# Altium footprint library Relay Mod.PcbLib: 1 footprints
Each footprint in its own frame and in the unit in brackets; x right, y up, seen from the top. Pads: shape width x height; smd on the part's side, far side on the other; paste and mask are expansions set on the pad; w line width, h text height; cw(c..) or ccw(c..) is an arc to the next point about the centre after c.
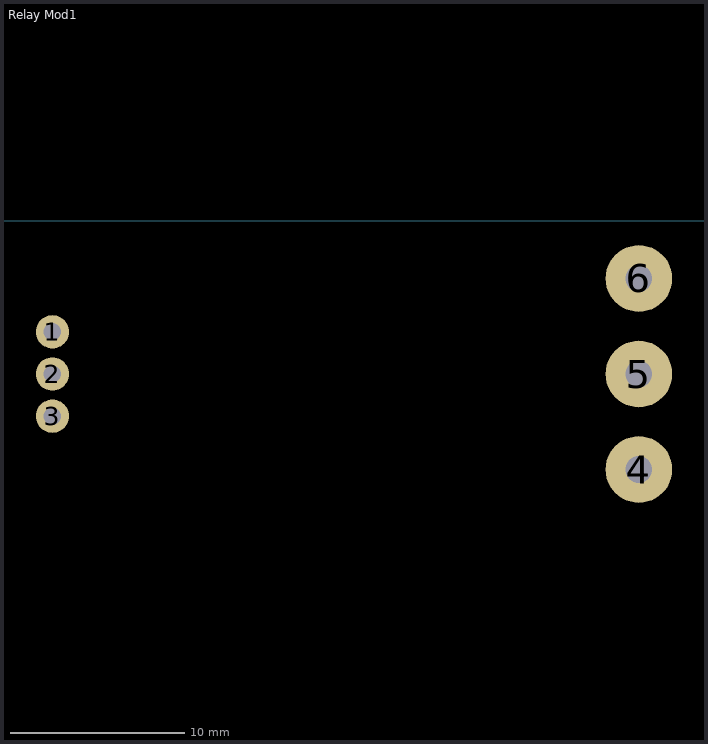
[diagram p0: the footprint, top view; thin cyan lines are the x and y axes]

## Relay Mod1 [mil]
pads (6):
  round 75 hole 39.37: 1(185,-250) 2(185,-345) 3(185,-440)
  round 150 hole 60: 4(1505,-560) 5(1505,-345) 6(1505,-130)
3D body "Arduino relay 01.STEP": height 676.18, standoff -46.26, extent 0,-688.78 1692.91,0.2